# Altium footprint library NRP-03K-C-05D-H.PcbLib: 1 footprints
Each footprint in its own frame and in the unit in brackets; x right, y up, seen from the top. Pads: shape width x height; smd on the part's side, far side on the other; paste and mask are expansions set on the pad; w line width, h text height; cw(c..) or ccw(c..) is an arc to the next point about the centre after c.
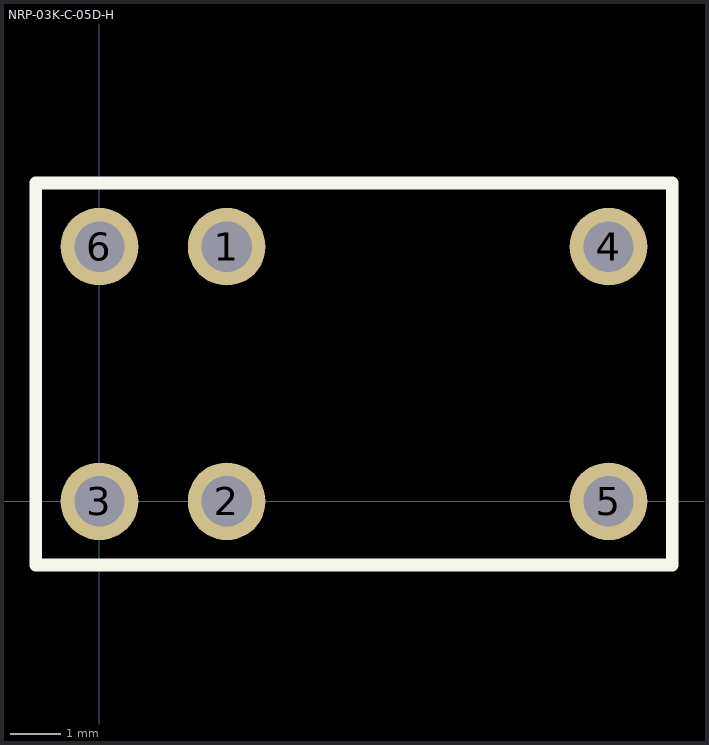
[diagram p0: the footprint, top view; thin cyan lines are the x and y axes]

## NRP-03K-C-05D-H [mm]
height 10
pads (6):
  round 1.55 hole 1: 1(2.54,5.08) 2(2.54,0) 3(0,0) 4(10.16,5.08) 5(10.16,0) 6(0,5.08)
Top Overlay:
  lines w0.254: -1.27,-1.27 -1.27,6.35 11.43,6.35 11.43,-1.27 -1.27,-1.27
3D body "NRP03K.stp": height 10, standoff -3.5, extent -1.168,-1.219 11.332,6.281